# Altium integrated library NTK3139PT1G (1).IntLib: 1 symbol
Pins are listed as number, name and electrical type; pins without a type are passive.

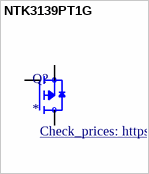
[diagram p0: symbol NTK3139PT1G]

## NTK3139PT1G
designator Q?
P-Channel 20V 660mA (Ta) 310mW (Ta) Surface Mount SOT-723; MF: ON Semiconductor; MP: NTK3139PT1G; SnapEDA_Link: https://www.snapeda.com/parts/NTK3139PT1G/ON%20Semiconductor/view-part/302649/?ref=snap; Mouser-Purchase-URL: https://snapeda.com/shop?store=Mouser&id=302649; Arrow_Europe-Purchase-URL: https://snapeda.com/shop?store=Arrow+Europe&id=302649; Value: *; Availability: Good; Price: None; Package: SOT-723 ON Semiconductor; Arrow_Electronics-Purchase-URL: https://snapeda.com/shop?store=Arrow+Electronics&id=302649; Check_prices: https://www.snapeda.com/parts/NTK3139PT1G/ON%20Semiconductor/view-part/302649/?ref=eda
footprint SOT40P120X55-3N
pins: 1 G, 2 S, 3 D